# Altium footprint library UBCSolar.PCBLIB: 94 footprints (part 2 of 6)
Each footprint in its own frame and in the unit in brackets; x right, y up, seen from the top. Pads: shape width x height; smd on the part's side, far side on the other; paste and mask are expansions set on the pad; w line width, h text height; cw(c..) or ccw(c..) is an arc to the next point about the centre after c.
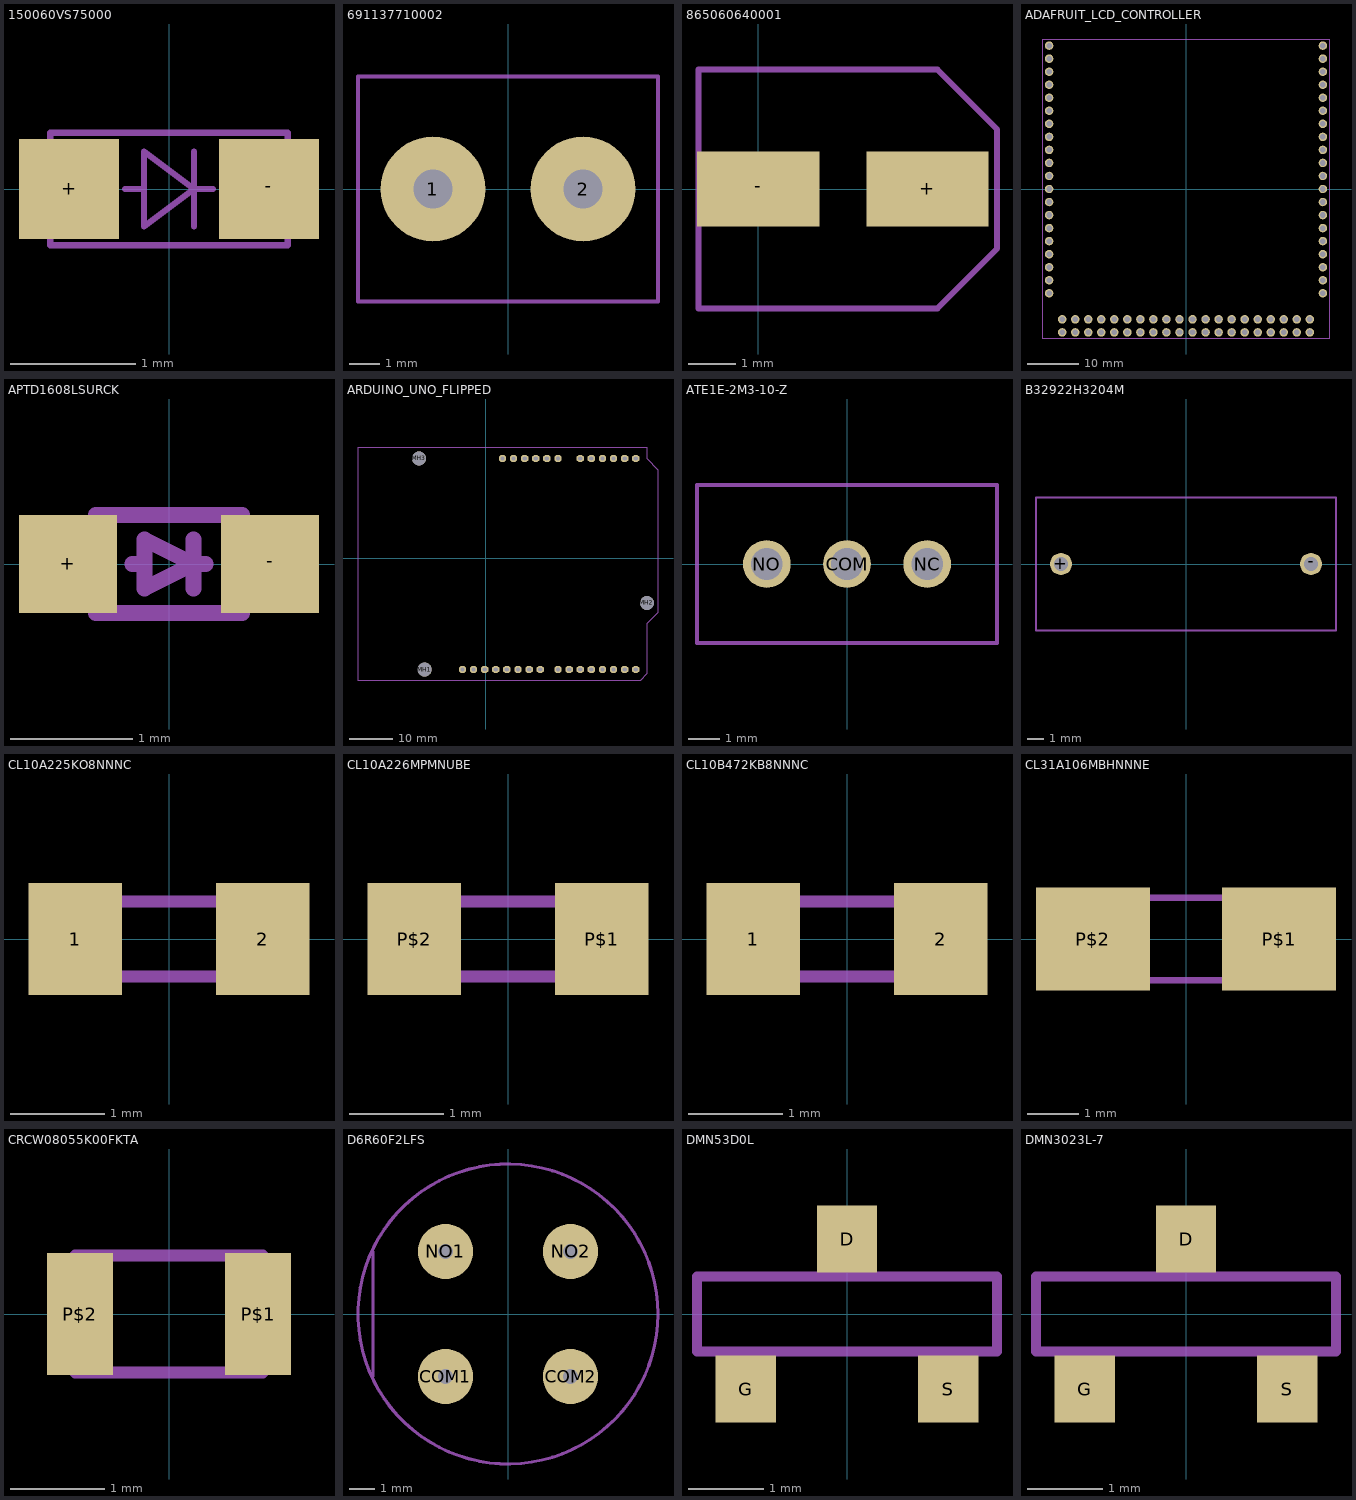
[diagram p1: the footprints below, top view; thin cyan lines are the x and y axes]

## 150060VS75000 [mil]
pads (2):
  rect 31.5x31.5 smd: +(-31.5,0) -(31.5,0)
Top Assembly:
  lines w1.97: -13.78,0 -7.87,0 ; 7.87,-11.81 7.87,0 ; 7.87,11.81 7.87,0 ; 13.78,0 7.87,0 ; -7.87,0 -7.87,11.81 7.87,0 ; -7.87,0 -7.87,-11.81 7.87,0 ; -37.4,-17.72 37.4,-17.72 37.4,17.72 -37.4,17.72 -37.4,-17.72

## 691137710002 [mil]
pads (2):
  round 137.8 / inner round 60 / far side round 137.8 hole 51.18: 1(-98.43,0) 2(98.43,0)
Top Assembly:
  lines w5: -196.85,-147.64 196.85,-147.64 196.85,147.64 -196.85,147.64 -196.85,-147.64

## 865060640001 [mil]
pads (2):
  rect 102.36x62.99 smd: +(141.73,0) -(0,0)
Top Assembly:
  lines w5: -50,-100 -50,100 150,100 200,50 200,-50 150,-100 -50,-100

## ADAFRUIT_LCD_CONTROLLER [mil]
pads (80):
  round 64.97 / inner round 60 / far side round 64.97 hole 43.31: 1.1(-1050,-800) 1.2(-950,-1100) 2.1(-1050,-700) 2.2(-950,-1000) 3.1(-1050,-600) 3.2(-850,-1100) 4.1(-1050,-500) 4.2(-850,-1000) 5.1(-1050,-400) 5.2(-750,-1100) 6.1(-1050,-300) 6.2(-750,-1000) 7.1(-1050,-200) 7.2(-650,-1100) 8.1(-1050,-100) 8.2(-650,-1000) 9.1(-1050,0) 9.2(-550,-1100) 10.1(-1050,100) 10.2(-550,-1000) 11.1(-1050,200) 11.2(-450,-1100) 12.1(-1050,300) 12.2(-450,-1000) 13.1(-1050,400) 13.2(-350,-1100) 14.1(-1050,500) 14.2(-350,-1000) 15.1(-1050,600) 15.2(-250,-1100) 16.1(-1050,700) 16.2(-250,-1000) 17.1(-1050,800) 17.2(-150,-1100) 18.1(-1050,900) 18.2(-150,-1000) 19.1(-1050,1000) 19.2(-50,-1100) 20.1(-1050,1100) 20.2(-50,-1000) 21.1(1050,1100) 21.2(50,-1100) 22.1(1050,1000) 22.2(50,-1000) 23.1(1050,900) 23.2(150,-1100) 24.1(1050,800) 24.2(150,-1000) 25.1(1050,700) 25.2(250,-1100) 26.1(1050,600) 26.2(250,-1000) 27.1(1050,500) 27.2(350,-1100) 28.1(1050,400) 28.2(350,-1000) 29.1(1050,300) 29.2(450,-1100) 30.1(1050,200) 30.2(450,-1000) 31.1(1050,100) 31.2(550,-1100) 32.1(1050,0) 32.2(550,-1000) 33.1(1050,-100) 33.2(650,-1100) 34.1(1050,-200) 34.2(650,-1000) 35.1(1050,-300) 35.2(750,-1100) 36.1(1050,-400) 36.2(750,-1000) 37.1(1050,-500) 37.2(850,-1100) 38.1(1050,-600) 38.2(850,-1000) 39.1(1050,-700) 39.2(950,-1100) 40.1(1050,-800) 40.2(950,-1000)
Top Assembly:
  lines w5: -1099.61,-1150.79 1099.61,-1150.79 1099.61,1150.79 -1099.61,1150.79 -1099.61,-1150.79

## APTD1608LSURCK [mil]
pads (2):
  rect 31.5x31.5 smd: +(-32.48,0) -(32.48,0)
Top Assembly:
  lines w5: -11.81,0 -7.87,0 ; 7.87,-7.87 7.87,0 ; 7.87,7.87 7.87,0 ; 11.81,0 7.87,0 ; -7.87,0 -7.87,7.87 7.87,0 ; -7.87,0 -7.87,-7.87 7.87,0 ; -23.62,-15.75 23.62,-15.75 23.62,15.75 -23.62,15.75 -23.62,-15.75

## ARDUINO_UNO_FLIPPED [mil]
pads (31):
  oct 66x66 / inner oct 60x60 / far side oct 66x66 hole 39.37: 3V(250,900) 5V(350,900) A0(850,900) A1(950,900) A2(1050,900) A3(1150,900) A4(1250,900) A5(1350,900) AREF(-210,-1000) D0(1350,-1000) D1(1250,-1000) D2(1150,-1000) D3(1050,-1000) D4(950,-1000) D5(850,-1000) D6(750,-1000) D7(650,-1000) D8(490,-1000) D9(390,-1000) D10(290,-1000) D11(190,-1000) D12(90,-1000) D13(-10,-1000) GND(-110,-1000) GND1(550,900) GND2(450,900) RESET(150,900) VIN(650,900)
  round 125.98 hole 125.98 unplated: MH1(-550,-1000) MH2(1450,-400) MH3(-600,900)
Top Assembly:
  lines w0: -1150,-1100 1390,-1100 1450,-1040 1450,-590 1550,-490 1550,800 1450,900 1450,1000 -1150,1000 -1150,-1100

## ATE1E-2M3-10-Z [mm]
pads (3):
  round 1.508 / inner round 1.524 / far side round 1.508 hole 1: COM(0,0) NC(2.54,0) NO(-2.54,0)
Top Assembly:
  lines w0.127: -4.75,-2.5 4.75,-2.5 4.75,2.5 -4.75,2.5 -4.75,-2.5

## B32922H3204M [mil]
pads (2):
  round 52.28 / inner round 60 / far side round 52.28 hole 32.28: +(-295.28,0) -(295.28,0)
Top Assembly:
  lines w5: 354.33,-98.43 354.33,-157.48 ; 354.33,-157.48 354.33,157.48 -354.33,157.48 -354.33,-157.48 354.33,-157.48

## CL10A225KO8NNNC [mm]
pads (2):
  rect 1x1.2 smd: 1(-1,0) 2(1,0)
Top Assembly:
  lines w0.127: -0.8,-0.4 0.8,-0.4 0.8,0.4 -0.8,0.4 -0.8,-0.4

## CL10A226MPMNUBE [mm]
pads (2):
  rect 1x1.2 smd: P$1(1,0) P$2(-1,0)
Top Assembly:
  lines w0.127: -0.8,-0.4 0.8,-0.4 0.8,0.4 -0.8,0.4 -0.8,-0.4

## CL10B472KB8NNNC [mm]
pads (2):
  rect 1x1.2 smd: 1(-1,0) 2(1,0)
Top Assembly:
  lines w0.127: -0.8,-0.4 0.8,-0.4 0.8,0.4 -0.8,0.4 -0.8,-0.4

## CL31A106MBHNNNE [mm]
pads (2):
  rect 2.2x2 smd: P$1(1.8,0) P$2(-1.8,0)
Top Assembly:
  lines w0.127: -1.6,-0.8 -1.6,0.8 1.6,0.8 1.6,-0.8 -1.6,-0.8

## CRCW08055K00FKTA [mil]
pads (2):
  rect 27.56x51.18 smd: P$1(37.4,0) P$2(-37.4,0)
Top Assembly:
  lines w5: -39.37,-24.61 39.37,-24.61 39.37,24.61 -39.37,24.61 -39.37,-24.61

## D6R60F2LFS [mil]
pads (4):
  round 86.61 / inner round 60 / far side round 86.61 hole 23.62: COM1(-98.43,-98.43) COM2(98.43,-98.43) NO1(-98.43,98.43) NO2(98.43,98.43)
Top Assembly:
  circle w5: c0,0 r236.22
  lines w5: -212.6,-98.43 -212.6,98.43

## DMN53D0L [mm]
pads (3):
  rect 0.8x0.9 smd: D(0,1) G(-1.35,-1) S(1.35,-1)
Top Assembly:
  lines w0.127: -2,-0.5 2,-0.5 2,0.5 -2,0.5 -2,-0.5

## DMN3023L-7 [mm]
pads (3):
  rect 0.8x0.9 smd: D(0,1) G(-1.35,-1) S(1.35,-1)
Top Assembly:
  lines w0.127: -2,-0.5 2,-0.5 2,0.5 -2,0.5 -2,-0.5